# Altium schematic symbol library RT9080-33GJ5.SchLib: 1 symbol
Pins are listed as number, name and electrical type; pins without a type are passive.

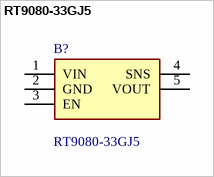
[diagram p0: symbol RT9080-33GJ5]

## RT9080-33GJ5
designator B?
IC REG LIN 3.3V 600MA TSOT23-5; Manufacturer_Name: RICHTEK; Geometry.Height: 1mm; Manufacturer_Part_Number: RT9080-33GJ5; Mouser Part Number: 835-RT9080-33GJ5; Mouser Price/Stock: https://www.mouser.co.uk/ProductDetail/Richtek/RT9080-33GJ5?qs=amGC7iS6iy9hJG6yuLjyPQ%3D%3D; Arrow Part Number: *; Arrow Price/Stock: *; Datasheet Link: https://www.richtek.com/assets/product_file/RT9080/DS9080-05.pdf
footprint SOT94P280X100-5N
pins: 1 VIN, 2 GND, 3 EN, 4 SNS, 5 VOUT